# Altium footprint library Mechanical.PcbLib: 61 footprints (part 4 of 4)
Each footprint in its own frame and in the unit in brackets; x right, y up, seen from the top. Pads: shape width x height; smd on the part's side, far side on the other; paste and mask are expansions set on the pad; w line width, h text height; cw(c..) or ccw(c..) is an arc to the next point about the centre after c.
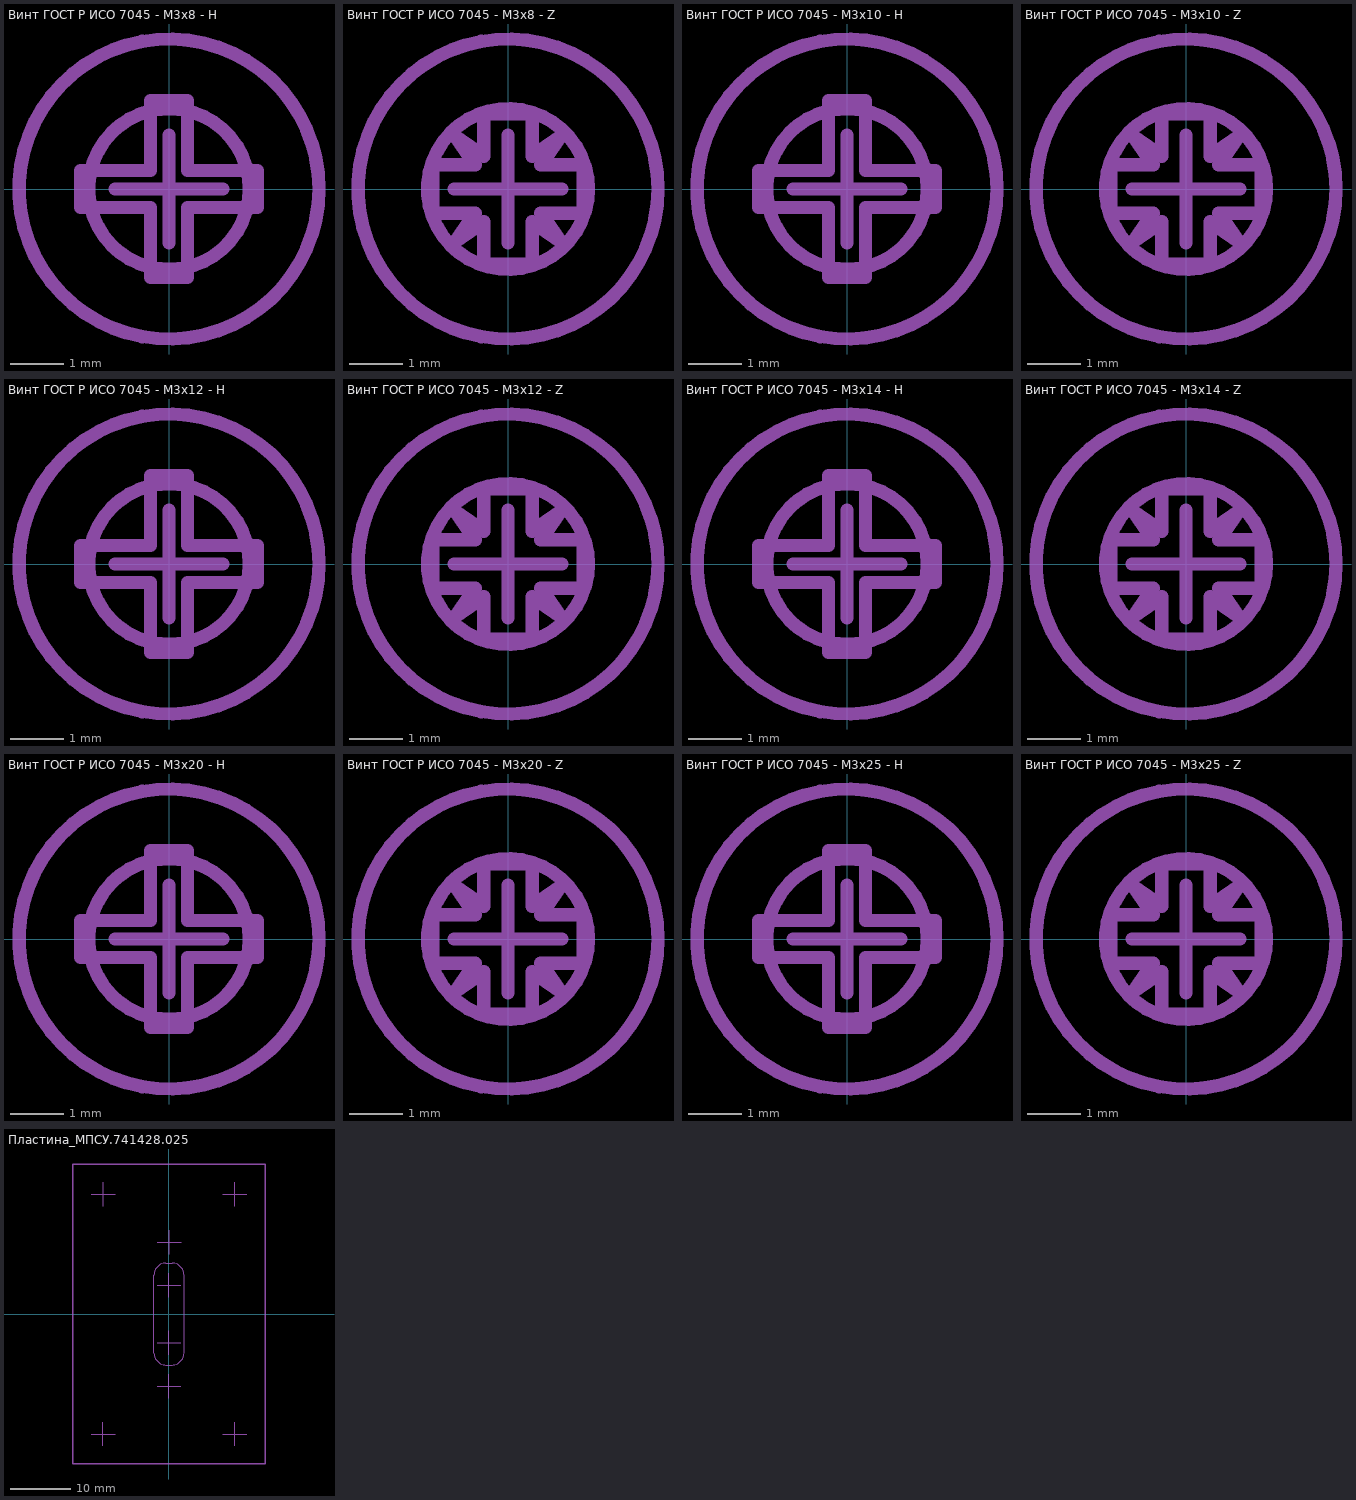
[diagram p3: the footprints below, top view; thin cyan lines are the x and y axes]

## Винт ГОСТ Р ИСО 7045 - М3x8 - H [mm] "Винт со скругленной головкой ГОСТ Р ИСО 7045 - М3x8 - H"
height 2.4
Top Assembly:
  circle w0.25: c0,0 r2.8
  lines w0.25: -1.65,-0.345 -0.345,-0.345 -0.345,-1.65 0.345,-1.65 0.345,-0.345 1.65,-0.345 1.65,0.345 0.345,0.345 0.345,1.65 -0.345,1.65 -0.345,0.345 -1.65,0.345 -1.65,-0.345
Top Mech:
  circle w0.25: c0,0 r1.5
  lines w0.25: -1,0 1,0 ; 0,-1 0,1
3D body "ГОСТ Р ИСО 7045 - M3x8 - H.STEP": height 2.39, standoff -7.99, extent -2.8,-2.8 2.8,2.8

## Винт ГОСТ Р ИСО 7045 - М3x8 - Z [mm] "Винт со скругленной головкой ГОСТ Р ИСО 7045 - М3x8 - Z"
height 2.4
Top Assembly:
  circle w0.25: c0,0 r2.8
  lines w0.25: -0.611,0.449 -0.99,0.99 -0.449,0.611 ; -0.61,0.45 -1.4,0.45 -1.4,-0.45 -0.61,-0.45 -0.99,-0.99 -0.449,-0.611 -0.45,-1.4 0.45,-1.4 0.45,-0.61 ; -0.45,0.61 -0.45,1.4 0.45,1.4 0.45,0.61 ; 0.449,0.611 0.99,0.99 0.611,0.449 ; 0.449,-0.611 0.99,-0.99 0.611,-0.449 ; 0.61,-0.45 1.4,-0.45 1.4,0.45 0.61,0.45
Top Mech:
  circle w0.25: c0,0 r1.5
  lines w0.25: -1,0 1,0 ; 0,-1 0,1
3D body "ГОСТ Р ИСО 7045 - M3x8 - Z.STEP": height 2.35, standoff -7.99, extent -2.8,-2.8 2.8,2.8

## Винт ГОСТ Р ИСО 7045 - М3x10 - H [mm] "Винт со скругленной головкой ГОСТ Р ИСО 7045 - М3x10 - H"
height 2.4
Top Assembly:
  circle w0.25: c0,0 r2.8
  lines w0.25: -1.65,-0.345 -1.65,0.345 -0.345,0.345 -0.345,1.65 0.345,1.65 0.345,0.345 1.65,0.345 1.65,-0.345 0.345,-0.345 0.345,-1.65 -0.345,-1.65 -0.345,-0.345 -1.65,-0.345
Top Mech:
  circle w0.25: c0,0 r1.5
  lines w0.25: -1,0 1,0 ; 0,-1 0,1
3D body "ГОСТ Р ИСО 7045 - M3x10 - H.STEP": height 2.39, standoff -9.99, extent -2.8,-2.8 2.8,2.8

## Винт ГОСТ Р ИСО 7045 - М3x10 - Z [mm] "Винт со скругленной головкой ГОСТ Р ИСО 7045 - М3x10 - Z"
height 2.4
Top Assembly:
  circle w0.25: c0,0 r2.8
  lines w0.25: -0.611,0.449 -0.99,0.99 -0.449,0.611 ; -0.61,0.45 -1.4,0.45 -1.4,-0.45 -0.61,-0.45 -0.99,-0.99 -0.449,-0.611 -0.45,-1.4 0.45,-1.4 0.45,-0.61 ; -0.45,0.61 -0.45,1.4 0.45,1.4 0.45,0.61 ; 0.449,0.611 0.99,0.99 0.611,0.449 ; 0.449,-0.611 0.99,-0.99 0.611,-0.449 ; 0.61,-0.45 1.4,-0.45 1.4,0.45 0.61,0.45
Top Mech:
  circle w0.25: c0,0 r1.5
  lines w0.25: -1,0 1,0 ; 0,-1 0,1
3D body "ГОСТ Р ИСО 7045 - M3x10 - Z.STEP": height 2.35, standoff -9.99, extent -2.8,-2.8 2.8,2.8

## Винт ГОСТ Р ИСО 7045 - М3x12 - H [mm] "Винт со скругленной головкой ГОСТ Р ИСО 7045 - М3x12 - H"
height 2.4
Top Assembly:
  circle w0.25: c0,0 r2.8
  lines w0.25: -1.65,-0.345 -1.65,0.345 -0.345,0.345 -0.345,1.65 0.345,1.65 0.345,0.345 1.65,0.345 1.65,-0.345 0.345,-0.345 0.345,-1.65 -0.345,-1.65 -0.345,-0.345 -1.65,-0.345
Top Mech:
  circle w0.25: c0,0 r1.5
  lines w0.25: -1,0 1,0 ; 0,-1 0,1
3D body "ГОСТ Р ИСО 7045 - M3x12 - H.STEP": height 2.39, standoff -11.99, extent -2.8,-2.8 2.8,2.8

## Винт ГОСТ Р ИСО 7045 - М3x12 - Z [mm] "Винт со скругленной головкой ГОСТ Р ИСО 7045 - М3x12 - Z"
height 2.4
Top Assembly:
  circle w0.25: c0,0 r2.8
  lines w0.25: -0.611,0.449 -0.99,0.99 -0.449,0.611 ; -0.61,0.45 -1.4,0.45 -1.4,-0.45 -0.61,-0.45 -0.99,-0.99 -0.449,-0.611 -0.45,-1.4 0.45,-1.4 0.45,-0.61 ; -0.45,0.61 -0.45,1.4 0.45,1.4 0.45,0.61 ; 0.449,0.611 0.99,0.99 0.611,0.449 ; 0.449,-0.611 0.99,-0.99 0.611,-0.449 ; 0.61,-0.45 1.4,-0.45 1.4,0.45 0.61,0.45
Top Mech:
  circle w0.25: c0,0 r1.5
  lines w0.25: -1,0 1,0 ; 0,-1 0,1
3D body "ГОСТ Р ИСО 7045 - M3x12 - Z.STEP": height 2.35, standoff -11.99, extent -2.8,-2.8 2.8,2.8

## Винт ГОСТ Р ИСО 7045 - М3x14 - H [mm] "Винт со скругленной головкой ГОСТ Р ИСО 7045 - М3x14 - H"
height 2.4
Top Assembly:
  circle w0.25: c0,0 r2.8
  lines w0.25: -1.65,-0.345 -0.345,-0.345 -0.345,-1.65 0.345,-1.65 0.345,-0.345 1.65,-0.345 1.65,0.345 0.345,0.345 0.345,1.65 -0.345,1.65 -0.345,0.345 -1.65,0.345 -1.65,-0.345
Top Mech:
  circle w0.25: c0,0 r1.5
  lines w0.25: -1,0 1,0 ; 0,-1 0,1
3D body "ГОСТ Р ИСО 7045 - M3x14 - H.STEP": height 2.39, standoff -13.99, extent -2.8,-2.8 2.8,2.8

## Винт ГОСТ Р ИСО 7045 - М3x14 - Z [mm] "Винт со скругленной головкой ГОСТ Р ИСО 7045 - М3x14 - Z"
height 2.4
Top Assembly:
  circle w0.25: c0,0 r2.8
  lines w0.25: -0.611,0.449 -0.99,0.99 -0.449,0.611 ; -0.61,0.45 -1.4,0.45 -1.4,-0.45 -0.61,-0.45 -0.99,-0.99 -0.449,-0.611 -0.45,-1.4 0.45,-1.4 0.45,-0.61 ; -0.45,0.61 -0.45,1.4 0.45,1.4 0.45,0.61 ; 0.449,0.611 0.99,0.99 0.611,0.449 ; 0.449,-0.611 0.99,-0.99 0.611,-0.449 ; 0.61,-0.45 1.4,-0.45 1.4,0.45 0.61,0.45
Top Mech:
  circle w0.25: c0,0 r1.5
  lines w0.25: -1,0 1,0 ; 0,-1 0,1
3D body "ГОСТ Р ИСО 7045 - M3x14 - Z.STEP": height 2.35, standoff -11.99, extent -2.8,-2.8 2.8,2.8

## Винт ГОСТ Р ИСО 7045 - М3x20 - H [mm] "Винт со скругленной головкой ГОСТ Р ИСО 7045 - М3x20 - H"
height 2.4
Top Assembly:
  circle w0.25: c0,0 r2.8
  lines w0.25: -1.65,-0.345 -1.65,0.345 -0.345,0.345 -0.345,1.65 0.345,1.65 0.345,0.345 1.65,0.345 1.65,-0.345 0.345,-0.345 0.345,-1.65 -0.345,-1.65 -0.345,-0.345 -1.65,-0.345
Top Mech:
  circle w0.25: c0,0 r1.5
  lines w0.25: -1,0 1,0 ; 0,-1 0,1
3D body "ГОСТ Р ИСО 7045 - M3x20 - H.STEP": height 2.39, standoff -19.99, extent -2.8,-2.8 2.8,2.8

## Винт ГОСТ Р ИСО 7045 - М3x20 - Z [mm] "Винт со скругленной головкой ГОСТ Р ИСО 7045 - М3x20 - Z"
height 2.4
Top Assembly:
  circle w0.25: c0,0 r2.8
  lines w0.25: -0.611,0.449 -0.99,0.99 -0.449,0.611 ; -0.61,0.45 -1.4,0.45 -1.4,-0.45 -0.61,-0.45 -0.99,-0.99 -0.449,-0.611 -0.45,-1.4 0.45,-1.4 0.45,-0.61 ; -0.45,0.61 -0.45,1.4 0.45,1.4 0.45,0.61 ; 0.449,0.611 0.99,0.99 0.611,0.449 ; 0.449,-0.611 0.99,-0.99 0.611,-0.449 ; 0.61,-0.45 1.4,-0.45 1.4,0.45 0.61,0.45
Top Mech:
  circle w0.25: c0,0 r1.5
  lines w0.25: -1,0 1,0 ; 0,-1 0,1
3D body "ГОСТ Р ИСО 7045 - M3x20 - Z.STEP": height 2.35, standoff -19.99, extent -2.8,-2.8 2.8,2.8

## Винт ГОСТ Р ИСО 7045 - М3x25 - H [mm] "Винт со скругленной головкой ГОСТ Р ИСО 7045 - М3x25 - H"
height 2.4
Top Assembly:
  circle w0.25: c0,0 r2.8
  lines w0.25: -1.65,-0.345 -1.65,0.345 -0.345,0.345 -0.345,1.65 0.345,1.65 0.345,0.345 1.65,0.345 1.65,-0.345 0.345,-0.345 0.345,-1.65 -0.345,-1.65 -0.345,-0.345 -1.65,-0.345
Top Mech:
  circle w0.25: c0,0 r1.5
  lines w0.25: -1,0 1,0 ; 0,-1 0,1
3D body "ГОСТ Р ИСО 7045 - M3x25 - H.STEP": height 2.39, standoff -24.99, extent -2.8,-2.8 2.8,2.8

## Винт ГОСТ Р ИСО 7045 - М3x25 - Z [mm] "Винт со скругленной головкой ГОСТ Р ИСО 7045 - М3x25 - Z"
height 2.4
Top Assembly:
  circle w0.25: c0,0 r2.8
  lines w0.25: -0.611,0.449 -0.99,0.99 -0.449,0.611 ; -0.61,0.45 -1.4,0.45 -1.4,-0.45 -0.61,-0.45 -0.99,-0.99 -0.449,-0.611 -0.45,-1.4 0.45,-1.4 0.45,-0.61 ; -0.45,0.61 -0.45,1.4 0.45,1.4 0.45,0.61 ; 0.449,0.611 0.99,0.99 0.611,0.449 ; 0.449,-0.611 0.99,-0.99 0.611,-0.449 ; 0.61,-0.45 1.4,-0.45 1.4,0.45 0.61,0.45
Top Mech:
  circle w0.25: c0,0 r1.5
  lines w0.25: -1,0 1,0 ; 0,-1 0,1
3D body "ГОСТ Р ИСО 7045 - M3x25 - Z.STEP": height 2.35, standoff -24.99, extent -2.8,-2.8 2.8,2.8

## Пластина_МПСУ.741428.025 [mm]
height 7
Top Assembly:
  lines w0.25: -16,-25 16,-25 16,25 -16,25 -16,-25
Top Mech:
  lines w0.1: -13,-20 -9,-20 ; -13,20 -9,20 ; -11,-22 -11,-18 ; -11,18 -11,22 ; -2,-12 2,-12 ; -2,-4.8 2,-4.8 ; -2,4.8 2,4.8 ; -2,12 2,12 ; 0,-14 0,-10 ; 0,-6.8 0,-2.8 ; 0,2.8 0,6.8 ; 0,10 0,14 ; 9,-20 13,-20 ; 9,20 13,20 ; 11,-22 11,-18 ; 11,18 11,22 ; -16,-25 16,-25 16,25 -16,25 -16,-25 ; -2.5,-6.5 ccw(c-0.5,-6.5) -0.5,-8.5 0.5,-8.5 ccw(c0.5,-6.5) 2.5,-6.5 2.5,6.5 ccw(c0.5,6.5) 0.5,8.5 -0.5,8.5 ccw(c-0.5,6.5) -2.5,6.5 -2.5,-6.5
3D body "Пластина_МПСУ.741428.025МД.STEP": height 7, standoff 0, extent -16,-25 16,25